# Altium schematic symbol library OXETGLJANF-24MHZ_2021-08-21.SCHLIB: 1 symbol
Pins are listed as number, name and electrical type; pins without a type are passive.

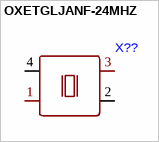
[diagram p0: symbol OXETGLJANF-24MHZ]

## OXETGLJANF-24MHZ
designator X??
footprint OSC-SMD_4P-L3.2-W2.5-BL
pins: 1 tri, 2 GND, 3 OUT, 4 VCC